# Altium schematic symbol library LED.SchLib: 1 symbol
Pins are listed as number, name and electrical type; pins without a type are passive.

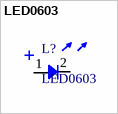
[diagram p0: symbol LED0603]

## LED0603
designator L?
footprint LED0603
pins: 1 +, 2 -